# Altium footprint library EL817.PcbLib: 1 footprints
Each footprint in its own frame and in the unit in brackets; x right, y up, seen from the top. Pads: shape width x height; smd on the part's side, far side on the other; paste and mask are expansions set on the pad; w line width, h text height; cw(c..) or ccw(c..) is an arc to the next point about the centre after c.
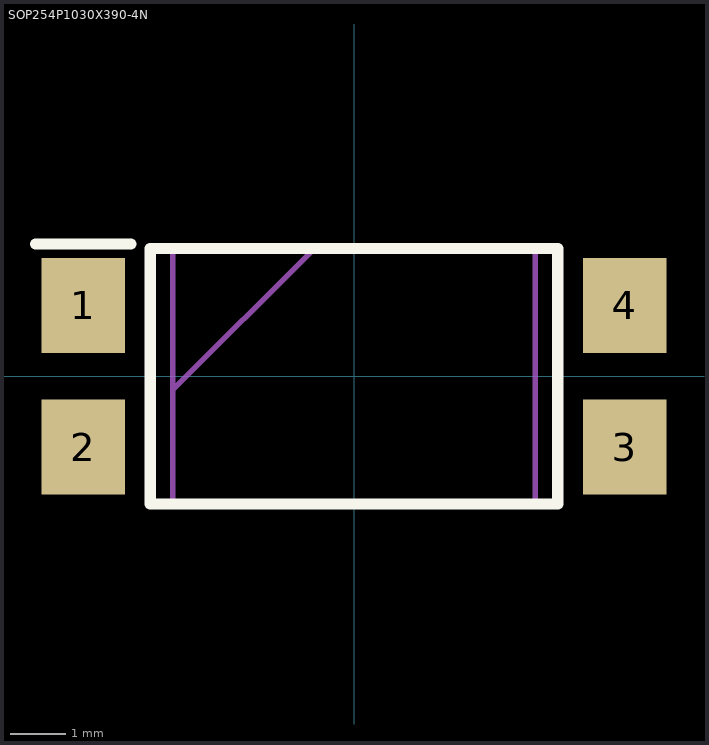
[diagram p0: the footprint, top view; thin cyan lines are the x and y axes]

## SOP254P1030X390-4N [mm]
pads (4):
  rect 1.5x1.7 smd: 1(-4.85,1.27) 2(-4.85,-1.27) 3(4.85,-1.27) 4(4.85,1.27)
Top Overlay:
  lines w0.2: -5.7,2.37 -4,2.37 ; -3.65,-2.29 3.65,-2.29 3.65,2.29 -3.65,2.29 -3.65,-2.29
Mechanical 13:
  lines w0.1: -3.25,-0.25 -0.71,2.29 ; -3.25,-2.29 3.25,-2.29 3.25,2.29 -3.25,2.29 -3.25,-2.29
3D body "EL817S1_C__TU_-F.stp": height 3.9, standoff 0, extent -5.15,-2.29 5.15,2.29